# EAGLE library part HM5X2 (library parts2011)
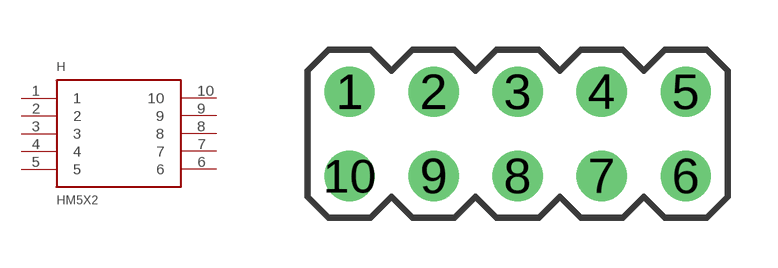
[diagram p10: symbol with the pads of HM5X2-PTH; footprint HM5X2-PTH]

Designator prefix H

## HM5X2-PTH  [HM5X2-PTH]
1  1  pas
2  2  pas
3  3  pas
4  4  pas
5  5  pas
6  6  pas
7  7  pas
8  8  pas
9  9  pas
10  10  pas

## Footprint HM5X2-PTH (pad centres in mm)
drill 1.016: 1 -5.08,1.27; 2 -2.54,1.27; 3 0,1.27; 4 2.54,1.27; 5 5.08,1.27; 6 5.08,-1.27; 7 2.54,-1.27; 8 0,-1.27; 9 -2.54,-1.27; 10 -5.08,-1.27